# Altium schematic symbol library 107.SchLib: 1 symbol
Pins are listed as number, name and electrical type; pins without a type are passive.

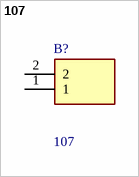
[diagram p0: symbol 107]

## 107
designator B?
KEYSTONE - 107 - BATTERY HOLDER, 23MM COIN CELL, THROUGH HOLE; Manufacturer_Name: Keystone Electronics; Geometry.Height: 8.5mm; Mouser Part Number: 534-107; Mouser Price/Stock: https://www.mouser.co.uk/ProductDetail/Keystone-Electronics/107?qs=Q3RoVmURDolD5lQJEVRplg%3D%3D; Manufacturer_Part_Number: 107; Datasheet Link: https://componentsearchengine.com/Datasheets/2/107.pdf
footprint 107
pins: 1, 2